# Altium schematic symbol library LM4960SQ_NOPB.SchLib: 1 symbol
Pins are listed as number, name and electrical type; pins without a type are passive.

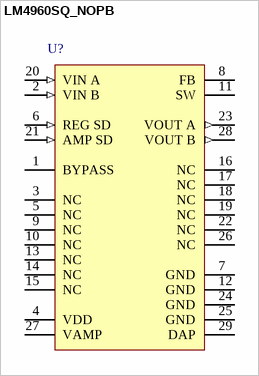
[diagram p0: symbol LM4960SQ_NOPB]

## LM4960SQ_NOPB
designator U?
Piezoelectric Speaker Driver, 28-pin LLP, Pb-Free; PartNumber: LM4960SQ/NOPB; Manufacturer: National Semiconductor; PackageTopMarking: NS*UZXYTT*L4960SQ; PowerWise: N; CompType: Audio IC; High-Reliability: Y; DatasheetVersion: Apr-2005; PackageVersion: revB, Aug-2003; PackageReference: SQA28A; PackageDescription: LLP, Plastic, Quad, 5 x 5 x 0.8mm Body, 28 Lead, 0.5mm Pitch, No Pullback; RoHS: Y; PinCount: 28; Code_JEDEC: MO-220-WHHD-3; ComponentLink1Description: Manufacturer URL; ComponentLink1URL: http://www.national.com/; ComponentLink2Description: LM4960 Datasheet; ComponentLink2URL: http://www.national.com/ds/LM/LM4960.pdf; ComponentLink3Description: LM4960 Web Page; ComponentLink3URL: http://www.national.com/pf/LM/LM4960.html; ComponentLink4Description: SQA28A Package Page; ComponentLink4URL: http://www.national.com/packaging/folders/sqa28a.html
footprint SQA28A (QFN, 29-Leads, Body 5x5mm, Pitch 0.5mm, NSC Recommended)
pins: 1 BYPASS, 2 VIN B (in), 3 NC, 4 VDD (power), 5 NC, 6 REG SD (in), 7 GND (power), 8 FB, 9 NC, 10 NC, 11 SW, 12 GND (power), 13 NC, 14 NC, 15 NC, 16 NC, 17 NC, 18 NC, 19 NC, 20 VIN A (in), 21 AMP SD (in), 22 NC, 23 VOUT A (out), 24 GND (power), 25 GND (power), 26 NC, 27 VAMP (power), 28 VOUT B (out), 29 DAP (power)